# Altium schematic symbol library PCB_Ticketing_Master.SchLib: 23 symbols
Pins are listed as number, name and electrical type; pins without a type are passive.

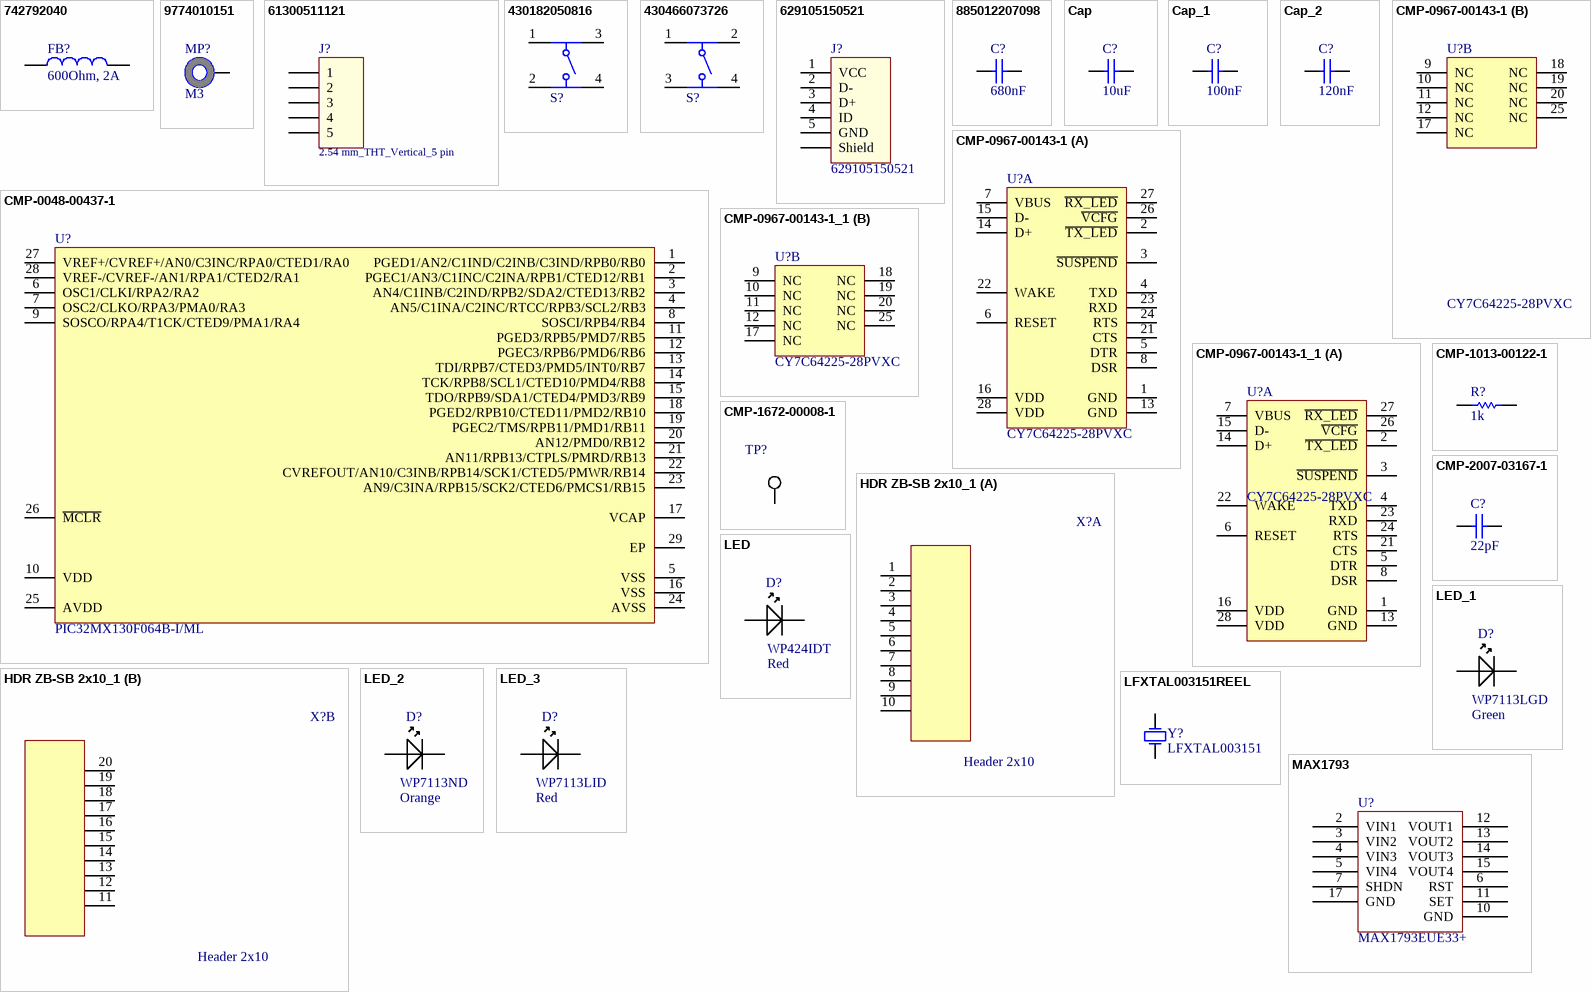
[diagram p0: symbols 742792040 to MAX1793]

## 742792040
designator FB?, comment 600Ohm, 2A
WE-CBF SMT EMI Suppression Ferrite Bead, size 0805, 600Ohm, 2A; Part Number: 742792040; Impedance max.: 700Ohm; DC Resistance max.: 0.15Ohm; Type: High Current; ComponentLink1Description: Manufacturer; ComponentLink1URL: http://www.we-online.de; ComponentLink2Description: Datasheet; ComponentLink2URL: https://katalog.we-online.com/pbs/datasheet/742792040.pdf; Published Date: March 2019; Publisher: Wurth Elektronik; Rated Current: 2A; Operating Temperature: -55 to +125degC; Impedance@100 MHz: 600Ohm; Mounting Technology: SMT; Packaging: Tape and Reel; Size: 0805; Supplier Part Number 1: 732-1620-1-ND; Supplier unit price: 0.2; Supplier: Digi-Key; Value: 600Ohm, 2A
footprint WE-CBF_0805_High Current
pins: 1, 2

## 9774010151
designator MP?, comment M3
WA-SMSI SMT Steel Spacer, M2.5 Thread Internal, Length 1mm; Supplier: Digi-Key
footprint 9774010151
pins: 1

## 61300511121
designator J?, comment 2.54 mm_THT_Vertical_5 pin
Pin Header WR-PHD, pitch 2.54 mm, THT, Vertical, single row, 5 pin; Supplier: Digi-Key; Supplier Part Number: 732-5318-ND; Supplier unit price: 0.25; Value: 2.54 mm_THT_Vertical_5 pin
footprint 61300511121
pins: 1, 2, 3, 4, 5

## 430182050816
designator S?  (value not drawn)
6x6mm SMD Tact Switch WS-TASV, height 5 mm, 160 gf; Supplier: Digi-Key; Supplier Part Number: 732-7005-1-ND; Supplier unit price: 0.51; Value: 430182050816
footprint 430182050816
pins: 1, 2, 3, 4

## 430466073726
designator S?  (value not drawn)
WS-TATV 12x12mm washable Tact Switch, THT version; Supplier: Digi-Key; Supplier Part Number: 430466073726-ND; Supplier unit price: 0.56; Value: 430466073726
footprint 4304x60737x6_12x12x7.3
pins: 1, 2, 3, 4

## 629105150521
designator J?
Micro USB 2.0 SMT Type B Horizontal 5 Contacts High Current WR-COM; Part Number: 732-5960-1-ND; Interface Type: Type B; Gender: Receptacle; ComponentLink1Description: Manufacturer; ComponentLink1URL: http://www.we-online.de; ComponentLink2Description: Datasheet; ComponentLink2URL: http://katalog.we-online.de/em/datasheet/629105150521.pdf; Published Date: April 2017; Publisher: Wurth Elektronik; Sub-Family: Micro USB 2.0; Type: Horizontal; Construction: SMT; Value: 629105150521; Supplier: Digi-key; Supplier Part Number: 732-5960-1-ND; Supplier unit price: 2.12
footprint 629105150521 (Micro USB 2.0 SMT Type B Horizontal 5 Contacts High Current)
pins: 1 VCC, 2 D-, 3 D+, 4 ID, 5 GND, Shell Shield

## 885012207098
designator C?, comment 680nF
WCAP-CSGP General Purpose Ceramic Capacitors, size 0805, 100nF, +/-10%, 50VDC; Technical Reference: X7R0805104K050DFCT10000; Capacitance: 680nF; Supplier Part Number 1: 732-7663-1-ND; Value: 680nF; Supplier unit price: 0.13; Supplier: Digi-Key
footprint 6-0805_N (Chip Resistor, Body 2.0x1.2mm, IPC Medium Density)
pins: 1, 2

## Cap
designator C?, comment 10uF
Capacitor; Published: 8-Jun-2000; LatestRevisionDate: 17-Jul-2002; LatestRevisionNote: Re-released for DXP Platform.; PackageReference: RAD-0.3; Publisher: Altium Limited; PackageDescription: Radial Cap, Thru-Hole; 2 Leads; 0.3 in Pin Spacing; Value: 10uF; Capacitance: 10uF; Supplier Part Number: 1276-1298-1-ND; Supplier unit price: 0.1; Supplier: Digi-Key
simulation model CAP (Capacitor)
signal-integrity model Cap
footprint 6-0805_N (Chip Resistor, Body 2.0x1.2mm, IPC Medium Density)
pins: 1, 2

## Cap_1
designator C?, comment 100nF
Capacitor; Value: 100nF; Supplier: Digi-Key; Supplier Part Number: 399-C0805C104M5RAC7800CT-ND; Supplier unit price: 0.1
footprint 6-0805_N (Chip Resistor, Body 2.0x1.2mm, IPC Medium Density)
pins: 1, 2

## Cap_2
designator C?, comment 120nF
Capacitor; Value: 120nF; Supplier: Digi-Key; Supplier Part Number: 311-4323-1-ND; Supplier unit price: 0.18
footprint 6-0805_N (Chip Resistor, Body 2.0x1.2mm, IPC Medium Density)
pins: 1, 2

## CMP-0048-00437-1
designator U?, comment PIC32MX130F064B-I/ML
32-bit Microcontroller with Audio and Graphics Interface, USB and Advanced Analog, 40 MHz, 21 I/O, PMP, -40 to 85 degC, 28-pin QFN (ML28), Tube; Supplier: Digi-Key; Supplier Part Number: PIC32MX130F064B-I/ML; Supplier unit price: 3.61; Value: PIC32MX130F064B-I/ML
footprint MCHP-QFN-ML28_L (QFN, 28-Leads, Body 6x6mm, Pitch 0.65mm, Thermal Pad 3.7x3.7mm, IPC High Density)
pins: 1 PGED1/AN2/C1IND/C2INB/C3IND/RPB0/RB0, 2 PGEC1/AN3/C1INC/C2INA/RPB1/CTED12/RB1, 3 AN4/C1INB/C2IND/RPB2/SDA2/CTED13/RB2, 4 AN5/C1INA/C2INC/RTCC/RPB3/SCL2/RB3, 5 VSS "Ground reference for logic and I/O pins. This pin must be connected at all times.", 6 OSC1/CLKI/RPA2/RA2, 7 OSC2/CLKO/RPA3/PMA0/RA3, 8 SOSCI/RPB4/RB4, 9 SOSCO/RPA4/T1CK/CTED9/PMA1/RA4, 10 VDD "Positive supply for peripheral logic and I/O pins", 11 PGED3/RPB5/PMD7/RB5, 12 PGEC3/RPB6/PMD6/RB6, 13 TDI/RPB7/CTED3/PMD5/INT0/RB7, 14 TCK/RPB8/SCL1/CTED10/PMD4/RB8, 15 TDO/RPB9/SDA1/CTED4/PMD3/RB9, 16 VSS "Ground reference for logic and I/O pins. This pin must be connected at all times.", 17 VCAP "CPU logic filter capacitor connection", 18 PGED2/RPB10/CTED11/PMD2/RB10, 19 PGEC2/TMS/RPB11/PMD1/RB11, 20 AN12/PMD0/RB12, 21 AN11/RPB13/CTPLS/PMRD/RB13, 22 CVREFOUT/AN10/C3INB/RPB14/SCK1/CTED5/PMWR/RB14, 23 AN9/C3INA/RPB15/SCK2/CTED6/PMCS1/RB15, 24 AVSS "Ground reference for analog modules", 25 AVDD "Positive supply for analog modules. This pin must be connected at all times.", 26 ~{MCLR} "Master Clear (Reset) input. This pin is an active-low Reset to the device.", 27 VREF+/CVREF+/AN0/C3INC/RPA0/CTED1/RA0, 28 VREF-/CVREF-/AN1/RPA1/CTED2/RA1, 29 EP

## CMP-0967-00143-1
designator U?, comment CY7C64225-28PVXC
USB-to-UART Bridge Controller, 3 to 5.25 V, 0 to 70 degC, 28-Pin SSOP (PVX28), Tube; Manufacturer: Cypress; Part Number: 428-3158-ND; Max. Operating Voltage (V): 5.25; Min. Operating Voltage (V): 3; Memory Architecture: Flash; Mounting Technology: Surface Mount; Max. Operating Temp. (degreesC): 70; DatasheetVersion: Rev. *D; Packing: Tube; ComponentLink2URL: http://www.cypress.com/?docID=48153; PackageReference: PVX28; PartNumber: CY7C64225-28PVXC; PackageDescription: 28-Pin Super Small Outline Package, Body 10.2 x 5.3 mm, Pitch 0.65 mm; RoHS: Pb-Free; ComponentLink3Description: Package Specification; Min. Operating Temp. (degreesC): 0; ComponentLink1URL: http://www.cypress.com/; ComponentLink2Description: Datasheet; ComponentLink1Description: Manufacturer URL; PackageVersion: Rev. *C, 10/2001; ComponentLink3URL: http://www.cypress.com/?docID=1371; Manufacturer Part Number: CY7C64225-28PVXC; Value: CY7C64225-28PVXC; Supplier: Digi-key; Supplier Part Number: 428-3158-ND; Supplier unit price: 3.83
footprint CYP-PVX28_L (SOP, 28-Leads, Body 10.2x5.3mm, Pitch 0.65mm, IPC High Density)
footprint CYP-PVX28_N (SOP, 28-Leads, Body 10.2x5.3mm, Pitch 0.65mm, IPC Medium Density)
footprint CYP-PVX28_M (SOP, 28-Leads, Body 10.2x5.3mm, Pitch 0.65mm, IPC Low Density)
part A pins: 1 GND "Ground", 2 ~{TX_LED} "Active low, UART Tx_LED, max current -20 mA", 3 ~{SUSPEND} "Active low indicates USB is suspended", 4 TXD "UART Data Transmit, Output", 5 DTR "Data Terminal Ready (DTR) Pin", 6 RESET "Active high on this pin resets the device", 7 VBUS "Used for VBUS monitoring. This pin requires a series resistor when connected to VBUS. The recommended values are in the range of 1 kohm-10 kohm.", 8 DSR "Data Set Ready (DSR) pin", 13 GND "USB Ground", 14 D+ "USB D+ Line", 15 D- "USB D- Line", 16 VDD "Supply Voltage (3.3 V or 5 V)", 21 CTS "Clear to Send (CTS) input, handshake signal", 22 WAKE "Active high on this pin, generates Remote Wake-Up signal on the Bus", 23 RXD "UART Data Receive, Input", 24 RTS "Request to Sent (RTS) output, hand-shake signal", 26 ~{VCFG} "Active low indicates VBUS is detected and device is configured", 27 ~{RX_LED} "Active low, UART Rx_LED, max current -20 mA", 28 VDD "Supply Voltage. 3.3 V or 5 V"
part B pins: 9 NC "No Connect", 10 NC "No Connect", 11 NC "No Connect", 12 NC "No Connect", 17 NC "No Connect", 18 NC "No Connect", 19 NC "No Connect", 20 NC "No Connect", 25 NC "No Connect"

## CMP-0967-00143-1_1
designator U?, comment CY7C64225-28PVXC
USB-to-UART Bridge Controller, 3 to 5.25 V, 0 to 70 degC, 28-Pin SSOP (PVX28), Tube; Manufacturer: Cypress; Max. Operating Voltage (V): 5.25; Min. Operating Voltage (V): 3; Memory Architecture: Flash; Mounting Technology: Surface Mount; Max. Operating Temp. (degreesC): 70; DatasheetVersion: Rev. *D; Packing: Tube; ComponentLink2URL: http://www.cypress.com/?docID=48153; PackageReference: PVX28; PartNumber: CY7C64225-28PVXC; PackageDescription: 28-Pin Super Small Outline Package, Body 10.2 x 5.3 mm, Pitch 0.65 mm; RoHS: Pb-Free; ComponentLink3Description: Package Specification; Min. Operating Temp. (degreesC): 0; ComponentLink1URL: http://www.cypress.com/; ComponentLink2Description: Datasheet; ComponentLink1Description: Manufacturer URL; PackageVersion: Rev. *C, 10/2001; ComponentLink3URL: http://www.cypress.com/?docID=1371; Manufacturer Part Number: CY7C64225-28PVXC; Supplier: Digi-Key; Supplier Part Number: 428-3158-ND; Supplier unit price: 3.83
footprint CYP-PVX28_L (SOP, 28-Leads, Body 10.2x5.3mm, Pitch 0.65mm, IPC High Density)
footprint CYP-PVX28_N (SOP, 28-Leads, Body 10.2x5.3mm, Pitch 0.65mm, IPC Medium Density)
footprint CYP-PVX28_M (SOP, 28-Leads, Body 10.2x5.3mm, Pitch 0.65mm, IPC Low Density)
part A pins: 1 GND "Ground", 2 ~{TX_LED} "Active low, UART Tx_LED, max current -20 mA", 3 ~{SUSPEND} "Active low indicates USB is suspended", 4 TXD "UART Data Transmit, Output", 5 DTR "Data Terminal Ready (DTR) Pin", 6 RESET "Active high on this pin resets the device", 7 VBUS "Used for VBUS monitoring. This pin requires a series resistor when connected to VBUS. The recommended values are in the range of 1 kohm-10 kohm.", 8 DSR "Data Set Ready (DSR) pin", 13 GND "USB Ground", 14 D+ "USB D+ Line", 15 D- "USB D- Line", 16 VDD "Supply Voltage (3.3 V or 5 V)", 21 CTS "Clear to Send (CTS) input, handshake signal", 22 WAKE "Active high on this pin, generates Remote Wake-Up signal on the Bus", 23 RXD "UART Data Receive, Input", 24 RTS "Request to Sent (RTS) output, hand-shake signal", 26 ~{VCFG} "Active low indicates VBUS is detected and device is configured", 27 ~{RX_LED} "Active low, UART Rx_LED, max current -20 mA", 28 VDD "Supply Voltage. 3.3 V or 5 V"
part B pins: 9 NC "No Connect", 10 NC "No Connect", 11 NC "No Connect", 12 NC "No Connect", 17 NC "No Connect", 18 NC "No Connect", 19 NC "No Connect", 20 NC "No Connect", 25 NC "No Connect"

## CMP-1013-00122-1
designator R?, comment 1k
100K 0.125W 5% 0805 (2012 Metric)  SMD; Manufacturer 1: Vishay Dale; Manufacturer Part Number 1: CRCW0805100KJNTA; Manufacturer Part Number 10: CRCW0805100KJNEB; Case-Metric: 2012; Case-EIA: 0805; Tolerance: 5 %; Technology: SMT; Value: 1k; Power: 0.125 W; Supplier: Digi-Key; Supplier Part Number: RNCP0805FTD1K00CT-ND; Supplier unit price: 0.1; Manufacturer 2: Vishay Dale; Manufacturer Part Number 2: CRCW0805100KJNEA; Manufacturer 3: Panasonic; Manufacturer Part Number 3: ERJ-6GEYJ104V; Manufacturer 4: Vishay Dale; Manufacturer Part Number 4: CRCW0805100KJNEC; Manufacturer 5: Bourns; Manufacturer Part Number 5: CR0805-JW-104ELF; Manufacturer 6: Vishay Dale; Manufacturer Part Number 6: CRCW0805100KJNTB; Manufacturer 7: Rohm; Manufacturer Part Number 7: MCR10EZPJ104; Manufacturer 8: Yageo; Manufacturer Part Number 8: RC0805JR-07100KL; Manufacturer 9: Vishay Dale; Manufacturer Part Number 9: CRCW0805100KJNTC; Manufacturer 10: Vishay Dale
footprint RESC0805(2012)_L (Chip Resistor, Body 2.0x1.3mm, IPC High Density)
footprint RESC0805(2012)_N (Chip Resistor, Body 2.0x1.3mm, IPC Medium Density)
footprint RESC0805(2012)_M (Chip Resistor, Body 2.0x1.3mm, IPC Low Density)
pins: 1, 2
1 alternate drawing of the same symbol

## CMP-1672-00008-1
designator TP?
Test Point, 1 Position SMD, RoHS, Tape and Reel; Manufacturer 1: Keystone Electronics; Manufacturer Part Number 1: 5019; ComponentLink1Description: Manufacturer URL; Package Quantity: 1000; DatasheetVersion: 03/2014; Packaging: Tape and Reel; ComponentLink2URL: http://www.keyelco.com/product-pdf.cfm?p=1357; ComponentLink1URL: http://www.keyelco.com/; Mount: Surface Mount; Contact Plating: Silver; PackageDescription: 1-Pin Surface Mount Device, Body 3.81 x 2.03 mm; Pins: 1; RoHSCompliant: True; Mounting Technology: Surface Mount; ComponentLink2Description: Datasheet; PackageReference: 5019; Supplier: Digi-Key; Supplier Part Number: 36-5019CT-ND; Supplier unit price: 0.33
footprint KSTN-5019_V (Test Point, 1-Leads, Body 3.81x2.03mm)
pins: 1

## CMP-2007-03167-1
designator C?, comment 22pF
VJ0805Y104KNAAT; Supplier: Digi-Key; Supplier Part Number: 399-C0805C220J5GAC7800CT-ND; Supplier unit price: 0.1; Value: 22pF
footprint 6-0805_N (Chip Resistor, Body 2.0x1.2mm, IPC Medium Density)
pins: 1, 2
1 alternate drawing of the same symbol

## HDR ZB-SB 2x10_1
designator X?, comment Header 2x10
Header 2x10 / Xbee de letml(1623) ou xbee XB24CAUIT-001; Value: Header 2x10; Supplier: Digi-Key
footprint ZB-SB (Header)
part A pins: 1, 2, 3, 4, 5, 6, 7, 8, 9, 10
part B pins: 11, 12, 13, 14, 15, 16, 17, 18, 19, 20

## LED
designator D?, comment WP424IDT  Color: Red
LED; Supplier: Digi-Key; Supplier Part Number: 754-1305-ND; Supplier unit price: 0.4; Value: WP424IDT
footprint LED-2P-2.28-3MM (LED, 2-Leads, Dia 3mm, Pitch 2.28mm)
pins: 1 Anode, 2 Cathode

## LED_1
designator D?, comment WP7113LGD  Color: Green
LED; Supplier: Digi-Key; Supplier Part Number: 754-1265-ND; Supplier unit price: 0.33; Value: WP7113LGD
footprint Type 5mm (THT, LED-5mm, 2pin- Body 5.8mm)
pins: 1 Cathode, 2 Anode

## LED_2
designator D?, comment WP7113ND  Color: Orange
LED; Supplier: Digi-Key; Supplier Part Number: 754-1896-ND; Supplier unit price: 0.3; Value: WP7113ND
footprint Type 5mm (THT, LED-5mm, 2pin- Body 5.8mm)
pins: 1 Cathode, 2 Anode

## LED_3
designator D?, comment WP7113LID  Color: Red
LED; Supplier: Digi-Key; Supplier Part Number: 754-1266-ND; Supplier unit price: 0.33; Value: WP7113LID
footprint Type 5mm (THT, LED-5mm, 2pin- Body 5.8mm)
pins: 1 Cathode, 2 Anode

## LFXTAL003151REEL
designator Y?, comment LFXTAL003151
Crystal or Oscillator; Frequency: 8MHz; Supplier: Farnell; Supplier Part Number: 9713794; Supplier unit price: 0.392; Value: LFXTAL003151
footprint LFXTAL003151REEL
pins: 1, 2

## MAX1793
designator U?, comment MAX1793EUE33+
Supplier Part Number: MAX1793EUE33+-ND; Supplier unit price: 3.92; Value: MAX1793EUE33+; Supplier: Digi-Key
footprint TSOP65P640X110_HS-17N (TSOP, 16-Leads, Body 5.00x4.40mm, Pitch 0.65mm, Thermal Pad 3.10x3.10mm, IPC Medium Density)
pins: 2 VIN1, 3 VIN2, 4 VIN3, 5 VIN4, 6 RST, 7 SHDN, 10 GND (power), 11 SET, 12 VOUT1, 13 VOUT2, 14 VOUT3, 15 VOUT4, 17 GND (power)